# Altium footprint library SIM0424-6-0-26-01-A.PcbLib: 1 footprints
Each footprint in its own frame and in the unit in brackets; x right, y up, seen from the top. Pads: shape width x height; smd on the part's side, far side on the other; paste and mask are expansions set on the pad; w line width, h text height; cw(c..) or ccw(c..) is an arc to the next point about the centre after c.
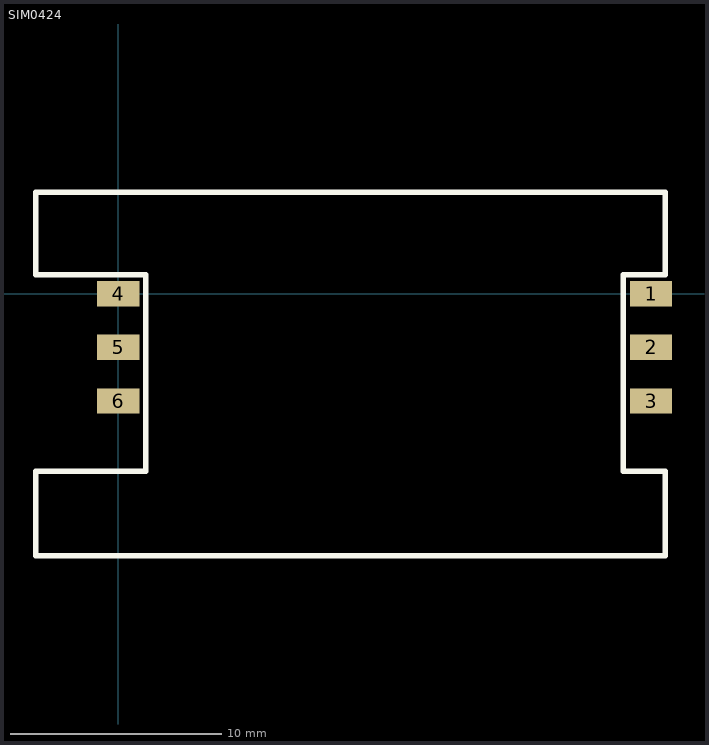
[diagram p0: the footprint, top view; thin cyan lines are the x and y axes]

## SIM0424 [mm] "Sim Holder SIM0424"
pads (6):
  rect 2x1.2 smd: 1(25.22,0) 2(25.22,-2.54) 3(25.22,-5.08) 4(0,0) 5(0,-2.54) 6(0,-5.08)
Top Overlay:
  lines w0.254: -3.9,-12.4 25.9,-12.4 25.9,-8.4 23.9,-8.4 23.9,0.9 25.9,0.9 25.9,4.8 -3.9,4.8 -3.9,0.9 1.3,0.9 1.3,-8.4 -3.9,-8.4 -3.9,-12.4
3D body: height 2.6, standoff -0.04, extent -3.91,-12.4 25.73,4.8